# Altium footprint library Dual-In-Line Package.PcbLib: 120 footprints (part 1 of 8)
Each footprint in its own frame and in the unit in brackets; x right, y up, seen from the top. Pads: shape width x height; smd on the part's side, far side on the other; paste and mask are expansions set on the pad; w line width, h text height; cw(c..) or ccw(c..) is an arc to the next point about the centre after c.
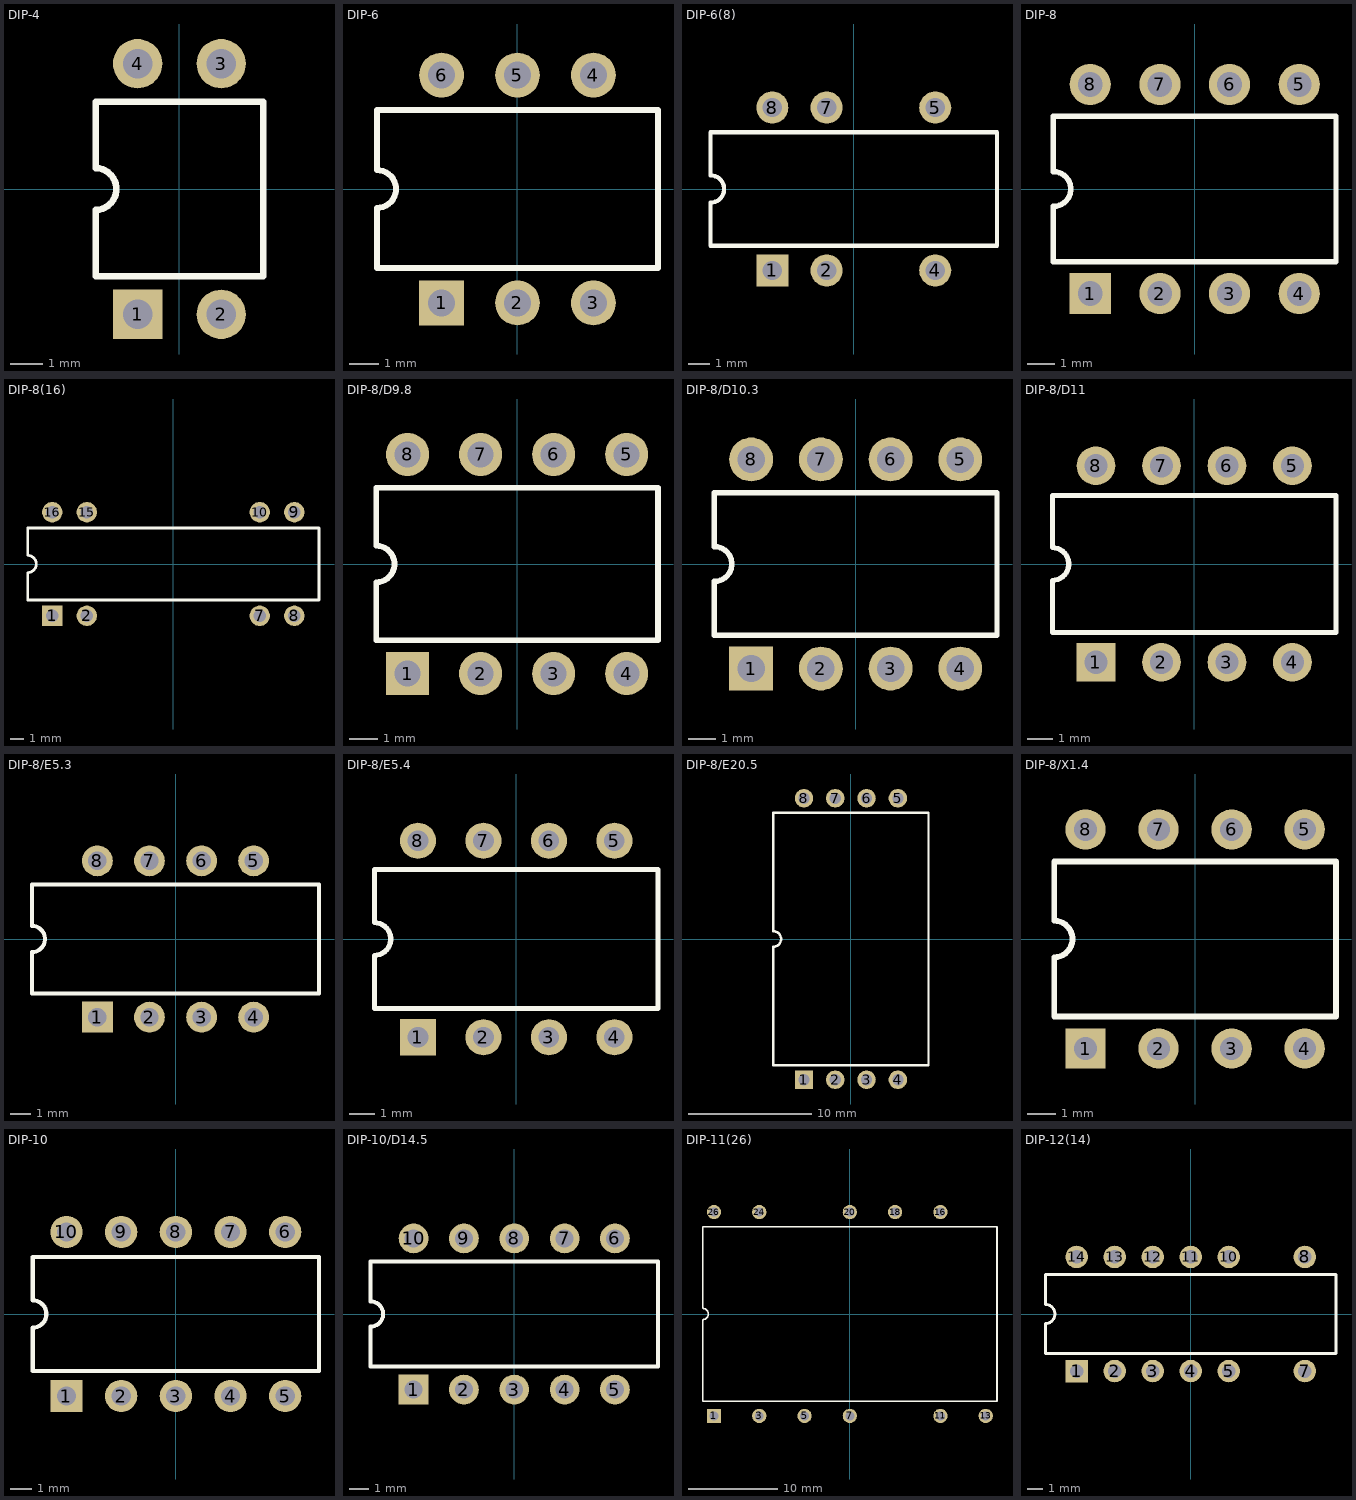
[diagram p0: the footprints below, top view; thin cyan lines are the x and y axes]

## DIP-4 [mm] "DIP; 4 Leads; Row Spacing 7.62 mm; Pitch 2.54 mm"
height 4.57
pads (4):
  rect 1.5x1.5 hole 0.9: 1(-1.27,-3.81)
  round 1.5 hole 0.9: 2(1.27,-3.81) 3(1.27,3.81) 4(-1.27,3.81)
Top Overlay:
  lines w0.2: -2.55,-2.65 -2.55,-0.635 ccw(c-2.55,0) -2.55,0.635 -2.55,2.65 2.55,2.65 2.55,-2.65 -2.55,-2.65

## DIP-6 [mm] "DIP; 6 Leads; Row Spacing 7.62 mm; Pitch 2.54 mm"
height 5.46
pads (6):
  rect 1.5x1.5 hole 0.9: 1(-2.54,-3.81)
  round 1.5 hole 0.9: 2(0,-3.81) 3(2.54,-3.81) 4(2.54,3.81) 5(0,3.81) 6(-2.54,3.81)
Top Overlay:
  lines w0.2: -4.7,-2.65 -4.7,-0.635 ccw(c-4.7,0) -4.7,0.635 -4.7,2.65 4.7,2.65 4.7,-2.65 -4.7,-2.65

## DIP-6(8) [mm] "DIP; 8 Leads (2 Absent); Row Spacing 7.62 mm; Pitch 2.54 mm"
height 4.2
pads (6):
  rect 1.5x1.5 hole 0.9: 1(-3.81,-3.81)
  round 1.5 hole 0.9: 2(-1.27,-3.81) 4(3.81,-3.81) 5(3.81,3.81) 7(-1.27,3.81) 8(-3.81,3.81)
Top Overlay:
  lines w0.2: -6.7,-2.65 -6.7,-0.635 ccw(c-6.7,0) -6.7,0.635 -6.7,2.65 6.7,2.65 6.7,-2.65 -6.7,-2.65

## DIP-8 [mm] "DIP; 8 Leads; Row Spacing 7.62 mm; Pitch 2.54 mm"
height 5.33
pads (8):
  rect 1.5x1.5 hole 0.9: 1(-3.81,-3.81)
  round 1.5 hole 0.9: 2(-1.27,-3.81) 3(1.27,-3.81) 4(3.81,-3.81) 5(3.81,3.81) 6(1.27,3.81) 7(-1.27,3.81) 8(-3.81,3.81)
Top Overlay:
  lines w0.2: -5.15,-2.65 -5.15,-0.635 ccw(c-5.15,0) -5.15,0.635 -5.15,2.65 5.15,2.65 5.15,-2.65 -5.15,-2.65

## DIP-8(16) [mm] "DIP; 16 Leads (8 Absent); Row Spacing 7.62 mm; Pitch 2.54 mm"
height 5.33
pads (8):
  rect 1.5x1.5 hole 0.9: 1(-8.89,-3.81)
  round 1.5 hole 0.9: 2(-6.35,-3.81) 7(6.35,-3.81) 8(8.89,-3.81) 9(8.89,3.81) 10(6.35,3.81) 15(-6.35,3.81) 16(-8.89,3.81)
Top Overlay:
  lines w0.2: -10.7,-2.65 -10.7,-0.635 ccw(c-10.7,0) -10.7,0.635 -10.7,2.65 10.7,2.65 10.7,-2.65 -10.7,-2.65

## DIP-8/D9.8 [mm] "8-Pin Plastic Dual In-Line Package (PDIP)"
height 4.32
pads (8):
  rect 1.5x1.5 hole 0.9: 1(-3.81,-3.81)
  round 1.5 hole 0.9: 2(-1.27,-3.81) 3(1.27,-3.81) 4(3.81,-3.81) 5(3.81,3.81) 6(1.27,3.81) 7(-1.27,3.81) 8(-3.81,3.81)
Top Overlay:
  lines w0.2: -4.9,-2.65 -4.9,-0.635 ccw(c-4.9,0) -4.9,0.635 -4.9,2.65 4.9,2.65 4.9,-2.65 -4.9,-2.65

## DIP-8/D10.3 [mm] "DIP; 8 Leads; Row Spacing 7.62 mm; Pitch 2.54 mm"
height 5.08
pads (8):
  rect 1.6x1.6 hole 1: 1(-3.81,-3.81)
  round 1.6 hole 1: 2(-1.27,-3.81) 3(1.27,-3.81) 4(3.81,-3.81) 5(3.81,3.81) 6(1.27,3.81) 7(-1.27,3.81) 8(-3.81,3.81)
Top Overlay:
  lines w0.2: -5.15,-2.6 5.15,-2.6 5.15,2.6 -5.15,2.6 -5.15,0.635 cw(c-5.15,0) -5.15,-0.635 -5.15,-2.6

## DIP-8/D11 [mm] "DIP; 8 Leads; Row Spacing 7.62 mm; Pitch 2.54 mm"
height 5.33
pads (8):
  rect 1.5x1.5 hole 0.9: 1(-3.81,-3.81)
  round 1.5 hole 0.9: 2(-1.27,-3.81) 3(1.27,-3.81) 4(3.81,-3.81) 5(3.81,3.81) 6(1.27,3.81) 7(-1.27,3.81) 8(-3.81,3.81)
Top Overlay:
  lines w0.2: -5.5,-2.65 -5.5,-0.635 ccw(c-5.5,0) -5.5,0.635 -5.5,2.65 5.5,2.65 5.5,-2.65 -5.5,-2.65

## DIP-8/E5.3 [mm] "DIP; 8 Leads; Row Spacing 7.62 mm; Pitch 2.54 mm"
height 4.45
pads (8):
  rect 1.5x1.5 hole 0.9: 1(-3.81,-3.81)
  round 1.5 hole 0.9: 2(-1.27,-3.81) 3(1.27,-3.81) 4(3.81,-3.81) 5(3.81,3.81) 6(1.27,3.81) 7(-1.27,3.81) 8(-3.81,3.81)
Top Overlay:
  lines w0.2: -7,-2.65 7,-2.65 7,2.65 -7,2.65 -7,0.635 cw(c-7,0) -7,-0.635 -7,-2.65

## DIP-8/E5.4 [mm] "DIP; 8 Leads; Row Spacing 7.62 mm; Pitch 2.54 mm"
height 5.33
pads (8):
  rect 1.4x1.4 hole 0.8: 1(-3.81,-3.81)
  round 1.4 hole 0.8: 2(-1.27,-3.81) 3(1.27,-3.81) 4(3.81,-3.81) 5(3.81,3.81) 6(1.27,3.81) 7(-1.27,3.81) 8(-3.81,3.81)
Top Overlay:
  lines w0.2: -5.5,-2.7 5.5,-2.7 5.5,2.7 -5.5,2.7 -5.5,0.635 cw(c-5.5,0) -5.5,-0.635 -5.5,-2.7

## DIP-8/E20.5 [mm] "DIP; 8 Leads; Row Spacing 22.86 mm; Pitch 2.54 mm"
height 5.24
pads (8):
  rect 1.5x1.5 hole 0.9: 1(-3.81,-11.43)
  round 1.5 hole 0.9: 2(-1.27,-11.43) 3(1.27,-11.43) 4(3.81,-11.43) 5(3.81,11.43) 6(1.27,11.43) 7(-1.27,11.43) 8(-3.81,11.43)
Top Overlay:
  lines w0.2: 6.3,-10.25 -6.3,-10.25 -6.3,-0.635 ccw(c-6.3,0) -6.3,0.635 -6.3,10.25 6.3,10.25 6.3,-10.2

## DIP-8/X1.4 [mm] "DIP; 8 Leads; Row Spacing 7.62 mm; Pitch 2.54 mm"
height 4
pads (8):
  rect 1.4x1.4 hole 0.8: 1(-3.81,-3.81)
  round 1.4 hole 0.8: 2(-1.27,-3.81) 3(1.27,-3.81) 4(3.81,-3.81) 5(3.81,3.81) 6(1.27,3.81) 7(-1.27,3.81) 8(-3.81,3.81)
Top Overlay:
  lines w0.2: -4.9,-2.7 -4.9,-0.635 ccw(c-4.9,0) -4.9,0.635 -4.9,2.7 4.9,2.7 4.9,-2.7 -4.9,-2.7

## DIP-10 [mm] "DIP; 10 Leads; Row Spacing 7.62 mm; Pitch 2.54 mm"
height 4.42
pads (10):
  rect 1.5x1.5 hole 0.9: 1(-5.08,-3.81)
  round 1.5 hole 0.9: 2(-2.54,-3.81) 3(0,-3.81) 4(2.54,-3.81) 5(5.08,-3.81) 6(5.08,3.81) 7(2.54,3.81) 8(0,3.81) 9(-2.54,3.81) 10(-5.08,3.81)
Top Overlay:
  lines w0.2: -6.65,-2.65 6.65,-2.65 6.65,2.65 -6.65,2.65 -6.65,0.635 cw(c-6.65,0) -6.65,-0.635 -6.65,-2.65

## DIP-10/D14.5 [mm] "DIP; 10 Leads; Row Spacing 7.62 mm; Pitch 2.54 mm"
height 5.08
pads (10):
  rect 1.5x1.5 hole 0.9: 1(-5.08,-3.81)
  round 1.5 hole 0.9: 2(-2.54,-3.81) 3(0,-3.81) 4(2.54,-3.81) 5(5.08,-3.81) 6(5.08,3.81) 7(2.54,3.81) 8(0,3.81) 9(-2.54,3.81) 10(-5.08,3.81)
Top Overlay:
  lines w0.2: -7.25,-2.65 -7.25,-0.635 ccw(c-7.25,0) -7.25,0.635 -7.25,2.65 7.25,2.65 7.25,-2.65 -7.25,-2.65

## DIP-11(26) [mm] "DIP; 26 Leads (15 Absent); Row Spacing 22.86 mm; Pitch 2.54 mm"
height 6.9
pads (11):
  rect 1.6x1.6 hole 1: 1(-15.24,-11.43)
  round 1.6 hole 1: 3(-10.16,-11.43) 5(-5.08,-11.43) 7(0,-11.43) 11(10.16,-11.43) 13(15.24,-11.43) 16(10.16,11.43) 18(5.08,11.43) 20(0,11.43) 24(-10.16,11.43) 26(-15.24,11.43)
Top Overlay:
  lines w0.2: -16.51,-9.795 -16.51,-0.635 ccw(c-16.51,0) -16.51,0.635 -16.51,9.795 16.51,9.795 16.51,-9.795 -16.51,-9.795

## DIP-12(14) [mm] "DIP; 14 Leads (2 Absent); Row Spacing 7.62 mm; Pitch 2.54 mm"
height 4.2
pads (12):
  rect 1.5x1.5 hole 0.9: 1(-7.62,-3.81)
  round 1.5 hole 0.9: 2(-5.08,-3.81) 3(-2.54,-3.81) 4(0,-3.81) 5(2.54,-3.81) 7(7.62,-3.81) 8(7.62,3.81) 10(2.54,3.81) 11(0,3.81) 12(-2.54,3.81) 13(-5.08,3.81) 14(-7.62,3.81)
Top Overlay:
  lines w0.2: -9.7,-2.65 9.7,-2.65 9.7,2.65 -9.7,2.65 -9.7,0.635 cw(c-9.7,0) -9.7,-0.635 -9.7,-2.65